# Altium footprint library JEILI_DEV_BOARD.PcbLib: 38 footprints (part 3 of 3)
Each footprint in its own frame and in the unit in brackets; x right, y up, seen from the top. Pads: shape width x height; smd on the part's side, far side on the other; paste and mask are expansions set on the pad; w line width, h text height; cw(c..) or ccw(c..) is an arc to the next point about the centre after c.
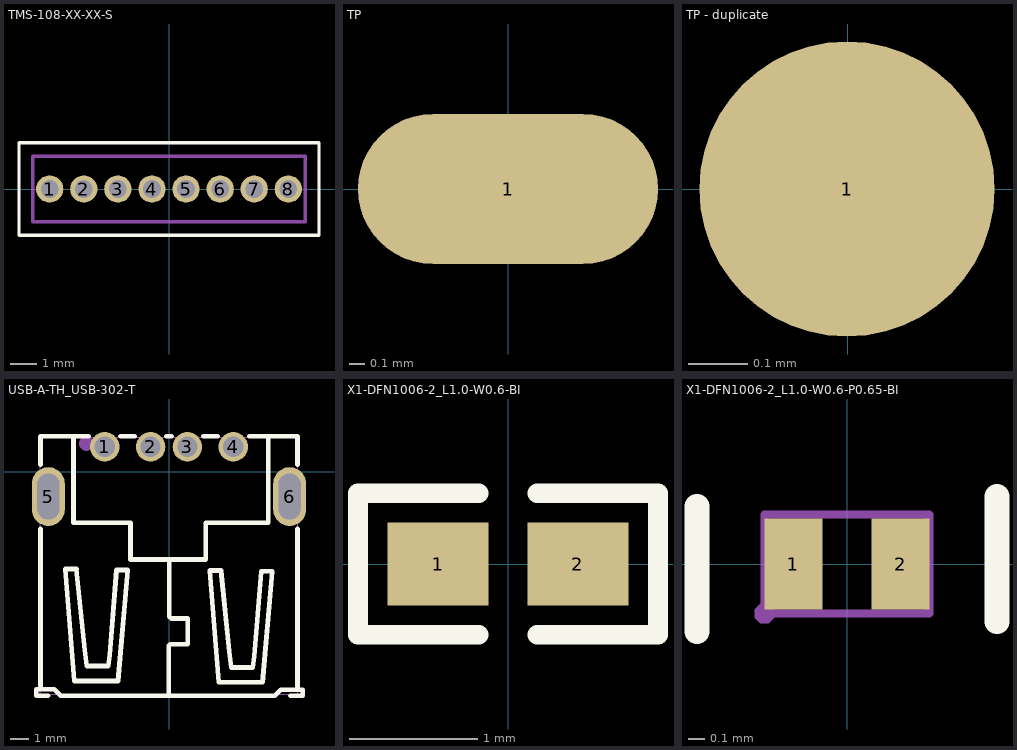
[diagram p2: the footprints below, top view; thin cyan lines are the x and y axes]

## TMS-108-XX-XX-S [mil]
pads (8):
  round 40 hole 26: 1(-175,0) 2(-125,0) 3(-75,0) 4(-25,0) 5(25,0) 6(75,0) 7(125,0) 8(175,0)
Top Overlay:
  lines w5: -220,-68 220,-68 220,68 -220,68 -220,-68
Mechanical 13:
  lines w5: -200,-48 200,-48 200,48 -200,48 -200,-48
3D body "TMS-108-58-SM-S.stp": height 585, standoff -120, extent -200,-45 200,51

## TP [mm]
pads (1):
  oval 2x1 smd: 1(-0.001,0)

## TP - duplicate [mm]
pads (1):
  round 0.5 smd: 1(-0.001,0)

## USB-A-TH_USB-302-T [mm]
pads (6):
  round 1.6 hole 1.1: 1(-3.5,1.355) 2(-1,1.355) 3(1,1.355) 4(3.5,1.355)
  oval 1.8x3.2 hole 1.2 slot 2.5 at 90 deg copper offset -0.001,-0.001: 5(-6.569,-1.354)
  oval 1.8x3.2 hole 1.2 slot 2.5 at 90 deg copper offset 0.001,0.001: 6(6.569,-1.356)
Top Overlay:
  lines w0.254: -7.226,-12.211 -6.591,-12.211 ; -7.224,-12.211 -7.226,-11.855 -6.261,-11.855 -5.905,-12.211 5.753,-12.211 6.083,-11.88 7.277,-11.88 7.277,-12.211 6.617,-12.211 ; -7,-11.68 -7,-3.101 ; -7,0.391 -7,1.92 -4.362,1.92 ; -5.2,1.92 -5.2,-2.78 -2.1,-2.78 -2.1,-4.78 2,-4.78 2,-2.78 5.4,-2.78 5.4,1.92 ; -2.638,1.92 -1.862,1.92 ; -0.138,1.92 0.138,1.92 ; -0.013,-12.211 -0.013,-9.467 0.064,-9.391 1.003,-9.391 1.029,-9.366 1.029,-7.994 0.114,-7.994 0.013,-7.893 0.013,-5.226 ; 0.013,-5.407 0.013,-4.78 ; 1.862,1.92 2.638,1.92 ; 4.362,1.92 7,1.92 7,0.391 ; 7,-11.88 7,-3.101 ; -5.651,-5.302 -5.042,-5.302 -4.585,-9.721 -4.483,-10.585 -3.305,-10.585 -3.231,-9.991 -2.857,-5.353 -2.248,-5.353 -2.781,-11.398 -5.169,-11.398 -5.651,-5.302 ; 2.222,-5.378 2.832,-5.378 3.289,-9.798 3.391,-10.661 4.569,-10.661 4.643,-10.067 5.016,-5.429 5.626,-5.429 5.093,-11.474 2.705,-11.474 2.222,-5.378
Mechanical 6:
  circle w0.4: c-4.495,1.538 r0.2
Mechanical 15:
  region: 6.37,-2.005 6.37,-0.705 6.77,-0.705 6.77,-2.005
  region: -6.37,-0.705 -6.37,-2.005 -6.77,-2.005 -6.77,-0.705
  region: 3.15,1.255 3.15,1.455 3.85,1.455 3.85,1.255
  region: 0.65,1.255 0.65,1.455 1.35,1.455 1.35,1.255
  region: -1.35,1.255 -1.35,1.455 -0.65,1.455 -0.65,1.255
  region: -3.85,1.255 -3.85,1.455 -3.15,1.455 -3.15,1.255
  region: -6.977,1.88 -6.977,1.856 -7.012,1.821 -7.062,1.821 -7.097,1.856 -7.097,1.88 -7.097,1.905 -7.062,1.94 -7.012,1.94 -6.977,1.905
  lines w0.051: -7,-12.12 -7,1.88 7,1.88 7,-12.12 -7,-12.12
3D body "USB-A1HSW6--3DModel-STEP-740395.STEP": height 7.6, standoff -3.2, extent -7.9,-11.57 7.9,2.53

## X1-DFN1006-2_L1.0-W0.6-BI [mm]
pads (2):
  rect 0.79x0.648 smd paste-100 mask+0.051: 1(-0.545,0) 2(0.545,0)
Top Overlay:
  lines w0.152: -0.226,-0.553 -1.169,-0.553 -1.169,0.553 -0.226,0.553 ; 0.226,-0.553 1.169,-0.553 1.169,0.553 0.226,0.553
Top Paste:
  region: 0.135,-0.104 0.135,0.104 0.404,0.324 0.892,0.324 0.94,0.276 0.94,-0.276 0.892,-0.324 0.404,-0.324
  region: -0.135,-0.104 -0.135,0.104 -0.404,0.324 -0.892,0.324 -0.94,0.276 -0.94,-0.276 -0.892,-0.324 -0.404,-0.324

## X1-DFN1006-2_L1.0-W0.6-P0.65-BI [mm]
pads (2):
  rect 0.35x0.55 smd: 1(-0.325,0) 2(0.325,0)
Top Overlay:
  lines w0.15: -0.91,-0.41 -0.91,0.35 ; 0.91,-0.35 0.91,0.41
Mechanical 15:
  region: -0.44,-0.3 -0.44,-0.325 -0.475,-0.36 -0.525,-0.36 -0.56,-0.325 -0.56,-0.3 -0.56,-0.275 -0.525,-0.24 -0.475,-0.24 -0.44,-0.275
  region: -0.2,-0.25 -0.45,-0.25 -0.45,0.25 -0.2,0.25
  region: 0.2,0.25 0.45,0.25 0.45,-0.25 0.2,-0.25
  lines w0.051: -0.5,-0.3 -0.5,0.3 0.5,0.3 0.5,-0.3 -0.5,-0.3